# EAGLE library part FE15-1 (library school_shield)
FEMALE HEADER
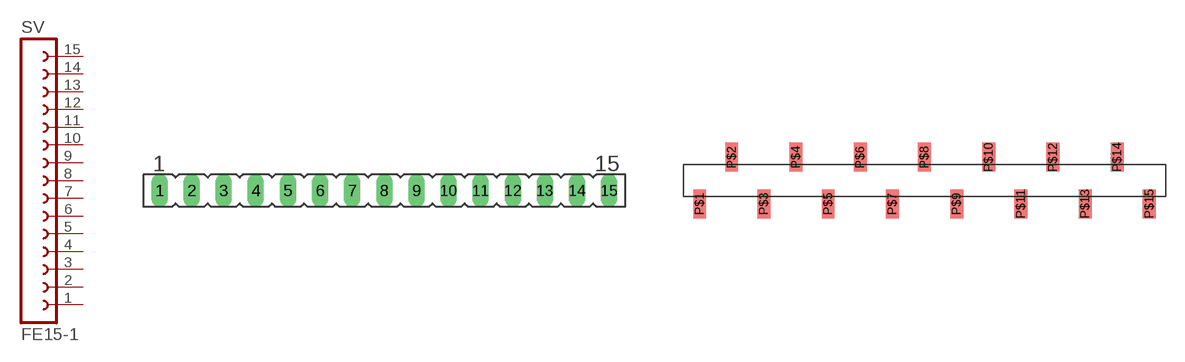
[diagram p0: symbol with the pads of FE15; footprints FE15, FE15_SMD]

Designator prefix SV

## FE15-1PTH (OC_FARNELL: unknown; OC_NEWARK: unknown)  [FE15]
1  1  pas
2  2  pas
3  3  pas
4  4  pas
5  5  pas
6  6  pas
7  7  pas
8  8  pas
9  9  pas
10  10  pas
11  11  pas
12  12  pas
13  13  pas
14  14  pas
15  15  pas

## FE15-1SMD  [FE15_SMD]
P$1  1  pas
P$2  2  pas
P$3  3  pas
P$4  4  pas
P$5  5  pas
P$6  6  pas
P$7  7  pas
P$8  8  pas
P$9  9  pas
P$10  10  pas
P$11  11  pas
P$12  12  pas
P$13  13  pas
P$14  14  pas
P$15  15  pas

## Footprint FE15 (pad centres in mm)
FEMALE HEADER
drill 0.813 long: 1 -17.78,0; 2 -15.24,0; 3 -12.7,0; 4 -10.16,0; 5 -7.62,0; 6 -5.08,0; 7 -2.54,0; 8 0,0; 9 2.54,0; 10 5.08,0; 11 7.62,0; 12 10.16,0; 13 12.7,0; 14 15.24,0; 15 17.78,0

## Footprint FE15_SMD (pad centres in mm)
smd 1.016 x 2.285: P$1 -17.784,-1.845; P$2 -15.251,1.843; P$3 -12.704,-1.845; P$4 -10.171,1.843; P$5 -7.624,-1.845; P$6 -5.091,1.843; P$7 -2.544,-1.845; P$8 -0.011,1.843; P$9 2.536,-1.845; P$10 5.069,1.843; P$11 7.616,-1.845; P$12 10.149,1.843; P$13 12.696,-1.845; P$14 15.229,1.843; P$15 17.776,-1.845